# Altium schematic symbol library SW_Tactile_6x6.SchLib: 1 symbol
Pins are listed as number, name and electrical type; pins without a type are passive.

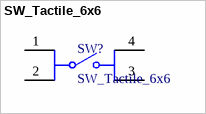
[diagram p0: symbol SW_Tactile_6x6]

## SW_Tactile_6x6
designator SW?
pins: 1, 2, 3, 4